# Altium footprint library NSC Switcher.PcbLib: 116 footprints (part 6 of 8)
Each footprint in its own frame and in the unit in brackets; x right, y up, seen from the top. Pads: shape width x height; smd on the part's side, far side on the other; paste and mask are expansions set on the pad; w line width, h text height; cw(c..) or ccw(c..) is an arc to the next point about the centre after c.
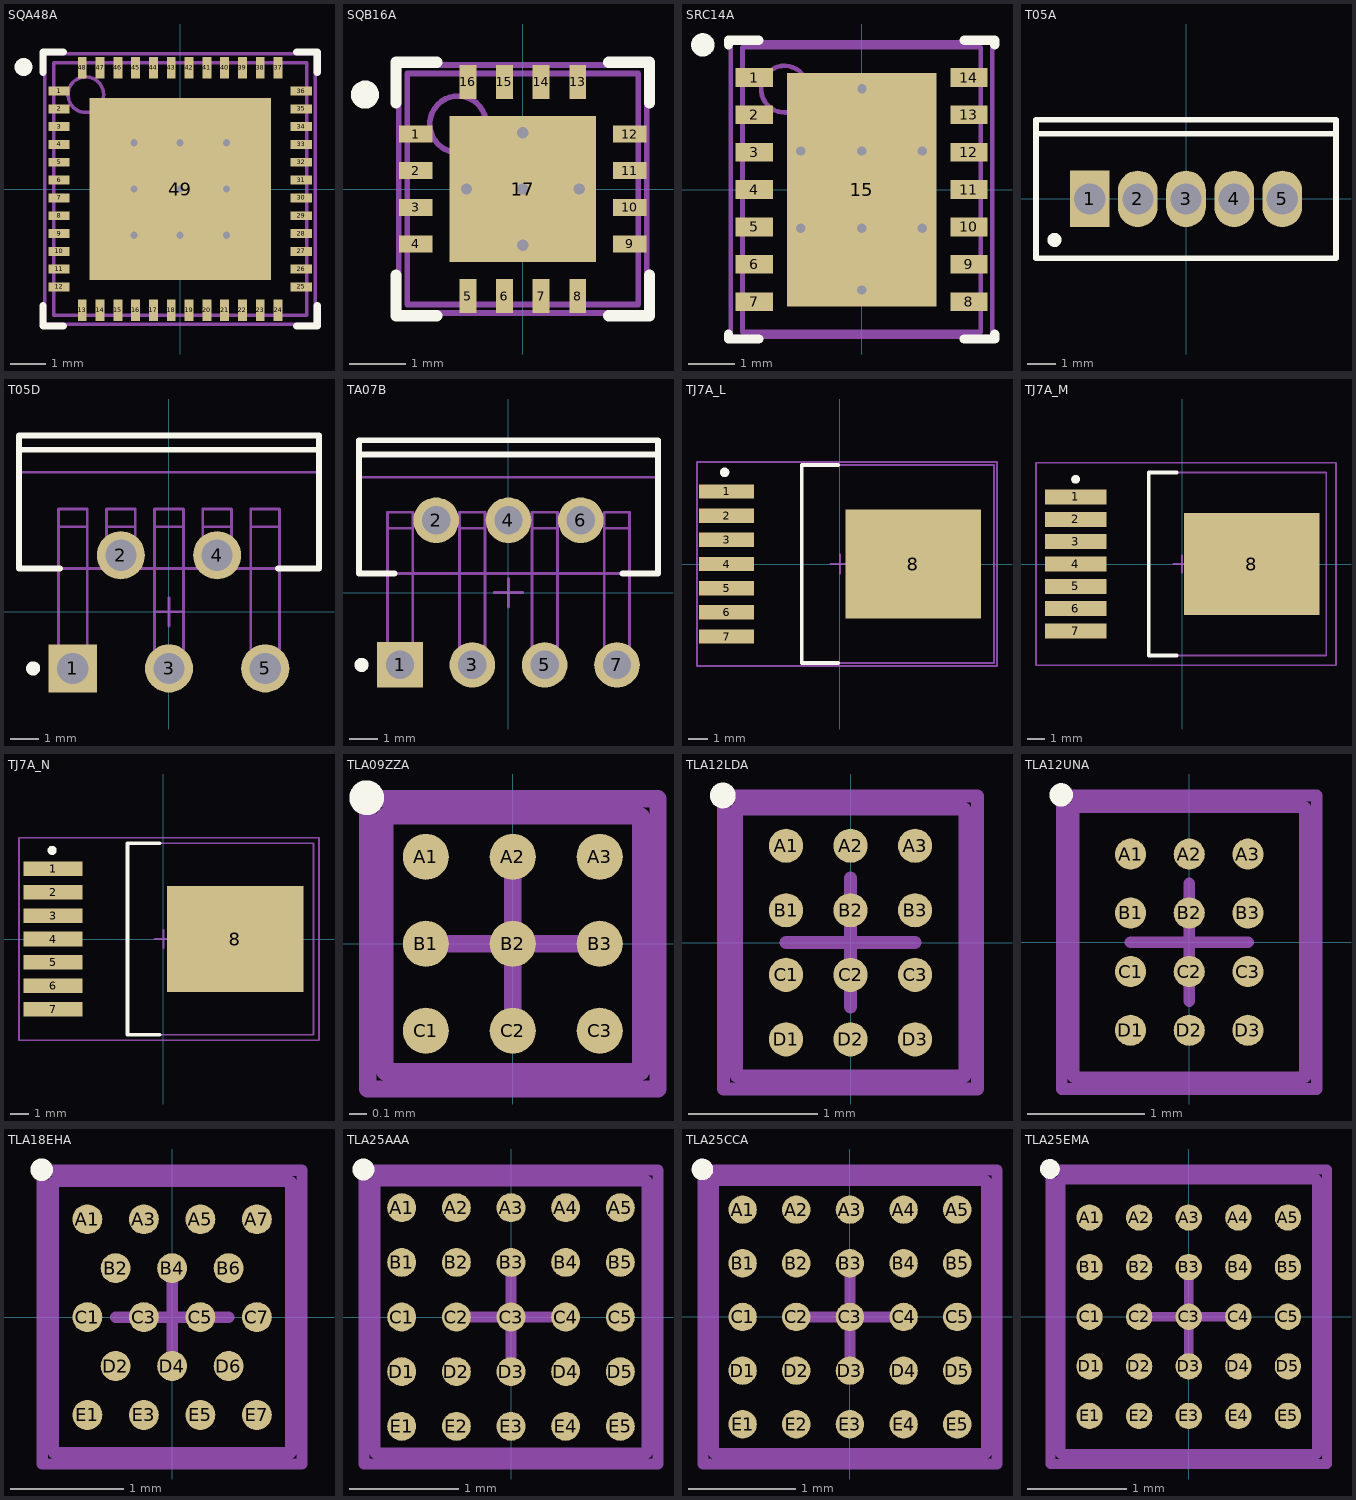
[diagram p5: the footprints below, top view; thin cyan lines are the x and y axes]

## SQA48A [mm] "QFN, 48-Leads, Body 7x7mm, Pitch 0.5mm, NSC Recommended"
height 0.8
pads (49):
  rect 0.6x0.25 smd paste-0.125 mask+0.051: 1(-3.4,2.75) 2(-3.4,2.25) 3(-3.4,1.75) 4(-3.4,1.25) 5(-3.4,0.75) 6(-3.4,0.25) 7(-3.4,-0.25) 8(-3.4,-0.75) 9(-3.4,-1.25) 10(-3.4,-1.75) 11(-3.4,-2.25) 12(-3.4,-2.75) 25(3.4,-2.75) 26(3.4,-2.25) 27(3.4,-1.75) 28(3.4,-1.25) 29(3.4,-0.75) 30(3.4,-0.25) 31(3.4,0.25) 32(3.4,0.75) 33(3.4,1.25) 34(3.4,1.75) 35(3.4,2.25) 36(3.4,2.75)
  rect 0.25x0.6 smd paste-0.125 mask+0.051: 13(-2.75,-3.4) 14(-2.25,-3.4) 15(-1.75,-3.4) 16(-1.25,-3.4) 17(-0.75,-3.4) 18(-0.25,-3.4) 19(0.25,-3.4) 20(0.75,-3.4) 21(1.25,-3.4) 22(1.75,-3.4) 23(2.25,-3.4) 24(2.75,-3.4) 37(2.75,3.4) 38(2.25,3.4) 39(1.75,3.4) 40(1.25,3.4) 41(0.75,3.4) 42(0.25,3.4) 43(-0.25,3.4) 44(-0.75,3.4) 45(-1.25,3.4) 46(-1.75,3.4) 47(-2.25,3.4) 48(-2.75,3.4)
  rect 5.1x5.1 smd paste-2.55 mask+0.051: 49(0,0)
via 0,-1.3 diameter 0.5 hole 0.2
via 1.3,-1.3 diameter 0.5 hole 0.2
via -1.3,-1.3 diameter 0.5 hole 0.2
via 0,1.3 diameter 0.5 hole 0.2
via 1.3,1.3 diameter 0.5 hole 0.2
via -1.3,1.3 diameter 0.5 hole 0.2
via -1.3,0 diameter 0.5 hole 0.2
via 1.3,0 diameter 0.5 hole 0.2
via 0,0 diameter 0.5 hole 0.2
Top Overlay:
  circle w0.25: c-4.4,3.425 r0.125
  lines w0.2: -3.85,-3.275 -3.85,-3.85 -3.275,-3.85 ; -3.85,3.275 -3.85,3.85 -3.275,3.85 ; 3.275,-3.85 3.85,-3.85 3.85,-3.275 ; 3.275,3.85 3.85,3.85 3.85,3.275
Top Paste:
  rectangle: -3.9,2.625 -3.2,2.875
  rectangle: -3.9,2.125 -3.2,2.375
  rectangle: -3.9,1.625 -3.2,1.875
  rectangle: -3.9,1.125 -3.2,1.375
  rectangle: -3.9,0.625 -3.2,0.875
  rectangle: -3.9,0.125 -3.2,0.375
  rectangle: -3.9,-0.375 -3.2,-0.125
  rectangle: -3.9,-0.875 -3.2,-0.625
  rectangle: -3.9,-1.375 -3.2,-1.125
  rectangle: -3.9,-1.875 -3.2,-1.625
  rectangle: -3.9,-2.375 -3.2,-2.125
  rectangle: -3.9,-2.875 -3.2,-2.625
  region: 2.875,-3.9 2.875,-3.2 2.625,-3.2 2.625,-3.9
  region: 2.375,-3.9 2.375,-3.2 2.125,-3.2 2.125,-3.9
  region: 1.875,-3.9 1.875,-3.2 1.625,-3.2 1.625,-3.9
  region: 1.375,-3.9 1.375,-3.2 1.125,-3.2 1.125,-3.9
  region: 0.875,-3.9 0.875,-3.2 0.625,-3.2 0.625,-3.9
  region: 0.375,-3.9 0.375,-3.2 0.125,-3.2 0.125,-3.9
  region: -0.125,-3.9 -0.125,-3.2 -0.375,-3.2 -0.375,-3.9
  region: -0.625,-3.9 -0.625,-3.2 -0.875,-3.2 -0.875,-3.9
  region: -1.125,-3.9 -1.125,-3.2 -1.375,-3.2 -1.375,-3.9
  region: -1.625,-3.9 -1.625,-3.2 -1.875,-3.2 -1.875,-3.9
  region: -2.125,-3.9 -2.125,-3.2 -2.375,-3.2 -2.375,-3.9
  region: -2.625,-3.9 -2.625,-3.2 -2.875,-3.2 -2.875,-3.9
  region: 3.9,2.875 3.2,2.875 3.2,2.625 3.9,2.625
  region: 3.9,2.375 3.2,2.375 3.2,2.125 3.9,2.125
  region: 3.9,1.875 3.2,1.875 3.2,1.625 3.9,1.625
  region: 3.9,1.375 3.2,1.375 3.2,1.125 3.9,1.125
  region: 3.9,0.875 3.2,0.875 3.2,0.625 3.9,0.625
  region: 3.9,0.375 3.2,0.375 3.2,0.125 3.9,0.125
  region: 3.9,-0.125 3.2,-0.125 3.2,-0.375 3.9,-0.375
  region: 3.9,-0.625 3.2,-0.625 3.2,-0.875 3.9,-0.875
  region: 3.9,-1.125 3.2,-1.125 3.2,-1.375 3.9,-1.375
  region: 3.9,-1.625 3.2,-1.625 3.2,-1.875 3.9,-1.875
  region: 3.9,-2.125 3.2,-2.125 3.2,-2.375 3.9,-2.375
  region: 3.9,-2.625 3.2,-2.625 3.2,-2.875 3.9,-2.875
  region: -2.875,3.9 -2.875,3.2 -2.625,3.2 -2.625,3.9
  region: -2.375,3.9 -2.375,3.2 -2.125,3.2 -2.125,3.9
  region: -1.875,3.9 -1.875,3.2 -1.625,3.2 -1.625,3.9
  region: -1.375,3.9 -1.375,3.2 -1.125,3.2 -1.125,3.9
  region: -0.875,3.9 -0.875,3.2 -0.625,3.2 -0.625,3.9
  region: -0.375,3.9 -0.375,3.2 -0.125,3.2 -0.125,3.9
  region: 0.125,3.9 0.125,3.2 0.375,3.2 0.375,3.9
  region: 0.625,3.9 0.625,3.2 0.875,3.2 0.875,3.9
  region: 1.125,3.9 1.125,3.2 1.375,3.2 1.375,3.9
  region: 1.625,3.9 1.625,3.2 1.875,3.2 1.875,3.9
  region: 2.125,3.9 2.125,3.2 2.375,3.2 2.375,3.9
  region: 2.625,3.9 2.625,3.2 2.875,3.2 2.875,3.9
  rectangle: 0.1,0.1 1.2,1.2
  rectangle: 0.1,1.4 1.2,2.5
  rectangle: 1.4,0.1 2.5,1.2
  rectangle: 1.4,1.4 2.5,2.5
  region: -1.4,2.5 -2.5,2.5 -2.5,1.4 -1.4,1.4
  region: -1.4,1.2 -2.5,1.2 -2.5,0.1 -1.4,0.1
  region: -0.1,2.5 -1.2,2.5 -1.2,1.4 -0.1,1.4
  region: -0.1,1.2 -1.2,1.2 -1.2,0.1 -0.1,0.1
  region: -2.5,-1.4 -2.5,-2.5 -1.4,-2.5 -1.4,-1.4
  region: -1.2,-1.4 -1.2,-2.5 -0.1,-2.5 -0.1,-1.4
  region: -2.5,-0.1 -2.5,-1.2 -1.4,-1.2 -1.4,-0.1
  region: -1.2,-0.1 -1.2,-1.2 -0.1,-1.2 -0.1,-0.1
  region: 1.4,-1.4 1.4,-2.5 2.5,-2.5 2.5,-1.4
  region: 0.1,-1.4 0.1,-2.5 1.2,-2.5 1.2,-1.4
  region: 1.4,-0.1 1.4,-1.2 2.5,-1.2 2.5,-0.1
  region: 0.1,-0.1 0.1,-1.2 1.2,-1.2 1.2,-0.1
Mechanical 13:
  circle w0.1: c-2.65,2.65 r0.5
  lines w0.1: -3.55,-3.55 3.55,-3.55 3.55,3.55 -3.55,3.55 -3.55,-3.55
Mechanical 15:
  lines w0.1: -0.5,0 0.5,0 ; 0,-0.5 0,0.5 ; -3.8,-3.8 3.8,-3.8 3.8,3.8 -3.8,3.8 -3.8,-3.8
3D body: height 0.8, standoff 0, extent -3.55,-3.55 3.55,3.55

## SQB16A [mm] "QFN, 16-Leads, Body 4x4mm, Pitch 0.65mm, NSC Recommended"
height 0.8
pads (17):
  rect 0.6x0.3 smd paste-0.15 mask+0.051: 1(-1.9,0.975) 2(-1.9,0.325) 3(-1.9,-0.325) 4(-1.9,-0.975) 9(1.9,-0.975) 10(1.9,-0.325) 11(1.9,0.325) 12(1.9,0.975)
  rect 0.3x0.6 smd paste-0.15 mask+0.051: 5(-0.975,-1.9) 6(-0.325,-1.9) 7(0.325,-1.9) 8(0.975,-1.9) 13(0.975,1.9) 14(0.325,1.9) 15(-0.325,1.9) 16(-0.975,1.9)
  rect 2.6x2.6 smd paste-1.3 mask+0.051: 17(0,0)
via 0,-1 diameter 0.5 hole 0.2
via 0,1 diameter 0.5 hole 0.2
via -1,0 diameter 0.5 hole 0.2
via 1,0 diameter 0.5 hole 0.2
via 0,0 diameter 0.5 hole 0.2
Top Overlay:
  circle w0.25: c-2.8,1.675 r0.125
  lines w0.2: -2.25,-1.525 -2.25,-2.25 -1.525,-2.25 ; -2.25,1.525 -2.25,2.25 -1.525,2.25 ; 1.525,-2.25 2.25,-2.25 2.25,-1.525 ; 1.525,2.25 2.25,2.25 2.25,1.525
Top Paste:
  rectangle: 0.1,-1.2 1.2,-0.1
  region: -0.1,-0.1 -1.2,-0.1 -1.2,-1.2 -0.1,-1.2
  region: -0.1,1.2 -1.2,1.2 -1.2,0.1 -0.1,0.1
  rectangle: 0.1,0.1 1.2,1.2
  region: 0.825,2.4 0.825,1.7 1.125,1.7 1.125,2.4
  region: 0.175,2.4 0.175,1.7 0.475,1.7 0.475,2.4
  region: -0.475,2.4 -0.475,1.7 -0.175,1.7 -0.175,2.4
  region: -1.125,2.4 -1.125,1.7 -0.825,1.7 -0.825,2.4
  region: 2.4,-0.825 1.7,-0.825 1.7,-1.125 2.4,-1.125
  region: 2.4,-0.175 1.7,-0.175 1.7,-0.475 2.4,-0.475
  region: 2.4,0.475 1.7,0.475 1.7,0.175 2.4,0.175
  region: 2.4,1.125 1.7,1.125 1.7,0.825 2.4,0.825
  region: -0.825,-2.4 -0.825,-1.7 -1.125,-1.7 -1.125,-2.4
  region: -0.175,-2.4 -0.175,-1.7 -0.475,-1.7 -0.475,-2.4
  region: 0.475,-2.4 0.475,-1.7 0.175,-1.7 0.175,-2.4
  region: 1.125,-2.4 1.125,-1.7 0.825,-1.7 0.825,-2.4
  rectangle: -2.4,-1.125 -1.7,-0.825
  rectangle: -2.4,-0.475 -1.7,-0.175
  rectangle: -2.4,0.175 -1.7,0.475
  rectangle: -2.4,0.825 -1.7,1.125
Mechanical 13:
  circle w0.1: c-1.15,1.15 r0.5
  lines w0.1: -2.05,-2.05 2.05,-2.05 2.05,2.05 -2.05,2.05 -2.05,-2.05
Mechanical 15:
  lines w0.1: -0.5,0 0.5,0 ; 0,-0.5 0,0.5 ; -2.2,-2.2 2.2,-2.2 2.2,2.2 -2.2,2.2 -2.2,-2.2
3D body: height 0.8, standoff 0, extent -2.05,-2.05 2.05,2.05

## SRC14A [mm] "SON, 14-Leads, Body 6x5 mm, Pitch 0.8mm, NSC Recommended"
height 1
pads (15):
  rect 0.8x0.4 smd paste-0.2 mask+0.051: 1(-2.3,2.4) 2(-2.3,1.6) 3(-2.3,0.8) 4(-2.3,0) 5(-2.3,-0.8) 6(-2.3,-1.6) 7(-2.3,-2.4) 8(2.3,-2.4) 9(2.3,-1.6) 10(2.3,-0.8) 11(2.3,0) 12(2.3,0.8) 13(2.3,1.6) 14(2.3,2.4)
  rect 3.2x5 smd paste-1.6 mask+0.051: 15(0,0)
via 0.01,2.16 diameter 0.5 hole 0.2
via 0,-2.15 diameter 0.5 hole 0.2
via -1.3,0.825 diameter 0.5 hole 0.2
via 0,0.825 diameter 0.5 hole 0.2
via 1.3,0.825 diameter 0.5 hole 0.2
via -1.3,-0.825 diameter 0.5 hole 0.2
via 0,-0.825 diameter 0.5 hole 0.2
via 1.3,-0.825 diameter 0.5 hole 0.2
Top Overlay:
  circle w0.25: c-3.4,3.1 r0.125
  lines w0.2: -2.85,-3.2 -2.85,-3.1 ; -2.85,3.1 -2.85,3.2 ; -2.845,-3.2 -2.2,-3.2 ; -2.845,3.2 -2.2,3.2 ; 2.2,-3.2 2.845,-3.2 ; 2.2,3.2 2.845,3.2 ; 2.85,-3.2 2.85,-3.1 ; 2.85,3.1 2.85,3.2
Top Paste:
  region: 2.9,2.6 2,2.6 2,2.2 2.9,2.2
  region: 2.9,1.8 2,1.8 2,1.4 2.9,1.4
  region: 2.9,1 2,1 2,0.6 2.9,0.6
  region: 2.9,-0.6 2,-0.6 2,-1 2.9,-1
  region: 2.9,-1.4 2,-1.4 2,-1.8 2.9,-1.8
  region: 2.9,-2.2 2,-2.2 2,-2.6 2.9,-2.6
  rectangle: 2,-0.2 2.9,0.2
  region: -2,0.2 -2.9,0.2 -2.9,-0.2 -2,-0.2
  rectangle: -2.9,-2.6 -2,-2.2
  rectangle: -2.9,-1.8 -2,-1.4
  rectangle: -2.9,-1 -2,-0.6
  rectangle: -2.9,0.6 -2,1
  rectangle: -2.9,1.4 -2,1.8
  region: 1.5,0.7 0.1,0.7 0.1,-0.7 1.5,-0.7
  rectangle: -1.5,-0.7 -0.1,0.7
  region: 1.5,2.35 0.11,2.35 0.11,0.95 1.5,0.95
  rectangle: -1.5,0.95 -0.1,2.35
  region: 1.5,-0.95 0.1,-0.95 0.1,-2.35 1.5,-2.35
  rectangle: -1.5,-2.35 -0.1,-0.95
  rectangle: -2.9,2.2 -2,2.6
Mechanical 13:
  circle w0.1: c-1.65,2.15 r0.5
  lines w0.1: -2.55,-3.05 2.55,-3.05 2.55,3.05 -2.55,3.05 -2.55,-3.05
Mechanical 15:
  lines w0.1: -0.5,0 0.5,0 ; 0,-0.5 0,0.5 ; -2.8,-3.15 2.8,-3.15 2.8,3.15 -2.8,3.15 -2.8,-3.15
3D body: height 1, standoff 0, extent -2.549,-3.049 2.549,3.049

## T05A [mm] "TO, Thru-Hole, Vertical, Heatsink Mounted; 5 In-Line Leads; Pitch 1.70 mm"
height 19.6
pads (5):
  rect 1.4x2 hole 1.1: 1(-3.4,0)
  oval 1.4x2 hole 1.1: 2(-1.7,0) 3(0,0) 4(1.7,0) 5(3.4,0)
Top Overlay:
  circle w0.25: c-4.65,-1.45 r0.125
  lines w0.2: -5.3,2.3 5.3,2.3 ; -5.3,-2.1 5.3,-2.1 5.3,2.8 -5.3,2.8 -5.3,-2.1
Mechanical 13:
  lines w0.1: -5.3,2.3 5.3,2.3 ; -5.3,-2.1 -5.3,2.8 5.3,2.8 5.3,-2.1 -5.3,-2.1 ; -3.91,-0.28 -3.91,0.28 -2.89,0.28 -2.89,-0.28 -3.91,-0.28 ; -2.21,-0.28 -2.21,0.28 -1.19,0.28 -1.19,-0.28 -2.21,-0.28 ; -0.51,-0.28 -0.51,0.28 0.51,0.28 0.51,-0.28 -0.51,-0.28 ; 1.19,-0.28 1.19,0.28 2.21,0.28 2.21,-0.28 1.19,-0.28 ; 2.89,-0.28 2.89,0.28 3.91,0.28 3.91,-0.28 2.89,-0.28
Mechanical 15:
  lines w0.1: -0.5,0 0.5,0 ; 0,-0.5 0,0.5
3D body: height 13, standoff 4.1, extent -5.35,-2.15 5.35,2.85
3D body: height 19.6, standoff 13, extent -5.299,2.301 5.299,2.799
3D body: height 4.1, standoff 0, extent -3.909,-0.279 -2.891,0.279
3D body: height 4.1, standoff 0, extent -2.209,-0.279 -1.191,0.279
3D body: height 4.1, standoff 0, extent 1.191,-0.279 2.209,0.279
3D body: height 4.1, standoff 0, extent 2.891,-0.279 3.909,0.279
3D body: height 4.1, standoff 0, extent -0.509,-0.279 0.509,0.279

## T05D [mm] "TO, Thru-Hole, Vertical, Heatsink Mounted; 5 Bent Staggered Leads; Body 10.3x8.6x4.6mm, Pitch 1.7 mm"
height 21.1
pads (5):
  rect 1.7x1.7 hole 1.1: 1(-3.4,-2)
  round 1.7 hole 1.1: 2(-1.7,2) 3(0,-2) 4(1.7,2) 5(3.4,-2)
Top Overlay:
  circle w0.25: c-4.8,-2 r0.125
  lines w0.2: -5.3,5.73 5.3,5.73 ; -3.854,1.53 -5.3,1.53 -5.3,6.23 5.3,6.23 5.3,1.53 3.854,1.53
Mechanical 13:
  lines w0.1: -5.3,4.93 5.3,4.93 ; -3.91,-1.685 -3.91,-2.315 -2.89,-2.315 -2.89,-1.685 ; -3.91,-1.685 -2.89,-1.685 ; -3.91,-1.685 -3.91,3.005 ; -3.91,3.005 -2.89,3.005 ; -3.91,3.005 -3.91,3.635 -2.89,3.635 -2.89,3.005 ; -2.89,-1.685 -2.89,3.005 ; -2.21,2.315 -2.21,1.685 -1.19,1.685 -1.19,2.315 ; -2.21,2.315 -1.19,2.315 ; -2.21,2.315 -2.21,3.005 ; -2.21,3.005 -1.19,3.005 ; -2.21,3.005 -2.21,3.635 -1.19,3.635 -1.19,3.005 ; -1.19,2.315 -1.19,3.005 ; -0.51,-1.685 -0.51,3.005 ; -0.51,-1.685 0.51,-1.685 ; -0.51,-1.685 -0.51,-2.315 0.51,-2.315 0.51,-1.685 ; -0.51,3.005 -0.51,3.635 0.51,3.635 0.51,3.005 ; -0.51,3.005 0.51,3.005 ; 0.51,-1.685 0.51,3.005 ; 1.19,2.315 1.19,1.685 2.21,1.685 2.21,2.315 ; 1.19,2.315 2.21,2.315 ; 1.19,2.315 1.19,3.005 ; 1.19,3.005 2.21,3.005 ; 1.19,3.005 1.19,3.635 2.21,3.635 2.21,3.005 ; 2.21,2.315 2.21,3.005 ; 2.89,-1.685 2.89,3.005 ; 2.89,-1.685 2.89,-2.315 3.91,-2.315 3.91,-1.685 ; 2.89,-1.685 3.91,-1.685 ; 2.89,3.005 3.91,3.005 ; 2.89,3.005 2.89,3.635 3.91,3.635 3.91,3.005 ; 3.91,-1.685 3.91,3.005 ; -5.3,1.53 -5.3,6.23 5.3,6.23 5.3,1.53 -5.3,1.53
Mechanical 15:
  lines w0.1: -0.5,0 0.5,0 ; 0,-0.5 0,0.5
3D body: height 5.6, standoff 1.95, extent -3.909,3.006 -2.891,3.634
3D body: height 1.72, standoff 0.63, extent 2.891,-1.684 3.909,1.529
3D body: height 1.72, standoff 0.63, extent -0.509,-1.684 0.509,1.529
3D body: height 1.72, standoff 0.63, extent -3.909,-1.684 -2.891,1.529
3D body: height 0.93, standoff 0, extent 2.891,-2.314 3.909,-1.686
3D body: height 0.93, standoff 0, extent -0.509,-2.314 0.509,-1.686
3D body: height 0.93, standoff 0, extent -3.909,-2.314 -2.891,-1.686
3D body: height 2.26, standoff 1.42, extent -0.509,1.531 0.509,3.004
3D body: height 2.26, standoff 1.42, extent -3.909,1.531 -2.891,3.004
3D body: height 2.26, standoff 1.42, extent 2.891,1.531 3.909,3.004
3D body: height 2.26, standoff 0.63, extent 1.191,2.316 2.209,3.004
3D body: height 2.26, standoff 0.63, extent -2.209,2.316 -1.191,3.004
3D body: height 0.93, standoff 0, extent -2.209,1.686 -1.191,2.314
3D body: height 0.93, standoff 0, extent 1.191,1.686 2.209,2.314
3D body: height 5.6, standoff 1.95, extent 2.891,3.006 3.909,3.634
3D body: height 5.6, standoff 1.95, extent 1.191,3.006 2.209,3.634
3D body: height 5.6, standoff 1.95, extent -0.509,3.006 0.509,3.634
3D body: height 5.6, standoff 1.95, extent -2.209,3.006 -1.191,3.634
3D body: height 14.5, standoff 5.6, extent -5.35,1.48 5.35,6.28
3D body: height 21.1, standoff 14.5, extent -5.299,4.931 5.299,6.229

## TA07B [mm] "TO, Thru-Hole, Vertical, Heatsink Mounted; 7 Bent Staggered Leads; Body 10.2x8.7x4.6mm, Pitch 1.27 mm"
height 20.9
pads (7):
  rect 1.6x1.6 hole 1: 1(-3.81,-2.54)
  round 1.6 hole 1: 2(-2.54,2.54) 3(-1.27,-2.54) 4(0,2.54) 5(1.27,-2.54) 6(2.54,2.54) 7(3.81,-2.54)
Top Overlay:
  circle w0.25: c-5.16,-2.54 r0.125
  lines w0.2: -5.25,4.85 5.25,4.85 ; -4,0.67 -5.25,0.67 -5.25,5.35 5.25,5.35 5.25,0.67 4,0.67
Mechanical 13:
  lines w0.1: -5.25,4.05 5.25,4.05 ; -4.255,-2.26 -4.255,2.26 ; -4.255,-2.26 -3.365,-2.26 ; -4.255,-2.26 -4.255,-2.82 -3.365,-2.82 -3.365,-2.26 ; -4.255,2.26 -4.255,2.82 -3.365,2.82 -3.365,2.26 ; -4.255,2.26 -3.365,2.26 ; -3.365,-2.26 -3.365,2.26 ; -1.715,-2.26 -1.715,2.26 ; -1.715,-2.26 -0.825,-2.26 ; -1.715,-2.26 -1.715,-2.82 -0.825,-2.82 -0.825,-2.26 ; -1.715,2.26 -1.715,2.82 -0.825,2.82 -0.825,2.26 ; -1.715,2.26 -0.825,2.26 ; -0.825,-2.26 -0.825,2.26 ; 0.825,-2.26 0.825,2.26 ; 0.825,-2.26 1.715,-2.26 ; 0.825,-2.26 0.825,-2.82 1.715,-2.82 1.715,-2.26 ; 0.825,2.26 0.825,2.82 1.715,2.82 1.715,2.26 ; 0.825,2.26 1.715,2.26 ; 1.715,-2.26 1.715,2.26 ; 3.365,-2.26 4.255,-2.26 ; 3.365,-2.26 3.365,-2.82 4.255,-2.82 4.255,-2.26 ; 3.365,-2.26 3.365,2.26 ; 3.365,2.26 3.365,2.82 4.255,2.82 4.255,2.26 ; 3.365,2.26 4.255,2.26 ; 4.255,-2.26 4.255,2.26 ; -5.25,0.67 -5.25,5.35 5.25,5.35 5.25,0.67 -5.25,0.67 ; -2.985,2.26 -2.985,2.82 -2.095,2.82 -2.095,2.26 -2.985,2.26 ; -0.445,2.26 -0.445,2.82 0.445,2.82 0.445,2.26 -0.445,2.26 ; 2.095,2.26 2.095,2.82 2.985,2.82 2.985,2.26 2.095,2.26
Mechanical 15:
  lines w0.1: -0.5,0 0.5,0 ; 0,-0.5 0,0.5
3D body: height 14.35, standoff 5.4, extent -5.3,0.62 5.3,5.4
3D body: height 0.7, standoff 0, extent 3.366,-2.819 4.254,-2.261
3D body: height 0.7, standoff 0, extent -1.714,-2.819 -0.826,-2.261
3D body: height 0.7, standoff 0, extent -4.254,-2.819 -3.366,-2.261
3D body: height 0.7, standoff 0, extent 0.826,-2.819 1.714,-2.261
3D body: height 2.45, standoff 0.45, extent -1.714,-2.259 -0.826,0.669
3D body: height 2.45, standoff 0.45, extent -4.254,-2.259 -3.366,0.669
3D body: height 2.45, standoff 0.45, extent 0.826,-2.259 1.714,0.669
3D body: height 2.45, standoff 0.45, extent 3.366,-2.259 4.254,0.669
3D body: height 3.69, standoff 2.15, extent 3.366,0.671 4.254,2.259
3D body: height 3.69, standoff 2.15, extent 0.826,0.671 1.714,2.259
3D body: height 3.69, standoff 2.15, extent -1.714,0.671 -0.826,2.259
3D body: height 3.69, standoff 2.15, extent -4.254,0.671 -3.366,2.259
3D body: height 5.4, standoff 3.3, extent -1.714,2.261 -0.826,2.819
3D body: height 5.4, standoff 0, extent -2.984,2.261 -2.096,2.819
3D body: height 5.4, standoff 3.3, extent -4.254,2.261 -3.366,2.819
3D body: height 5.4, standoff 0, extent -0.444,2.261 0.444,2.819
3D body: height 5.4, standoff 0, extent 2.096,2.261 2.984,2.819
3D body: height 5.4, standoff 3.3, extent 3.366,2.261 4.254,2.819
3D body: height 5.4, standoff 3.3, extent 0.826,2.261 1.714,2.819
3D body: height 20.9, standoff 14.35, extent -5.249,4.051 5.249,5.349

## TJ7A_L [mm] "D2-PAK, 8-Leads, Body 9.9x10.2mm, Pitch 1.27mm, Lead Span 14mm, IPC High Density"
height 2.1
pads (8):
  rect 2.9x0.75 smd: 1(-5.95,3.81) 2(-5.95,2.54) 3(-5.95,1.27) 4(-5.95,0) 5(-5.95,-1.27) 6(-5.95,-2.54) 7(-5.95,-3.81)
  rect 7.1x5.7 smd: 8(3.85,0)
Top Overlay:
  circle w0.25: c-6.05,4.815 r0.125
  lines w0.2: -0.1,-5.2 -2,-5.2 -2,5.2 -0.1,5.2
Mechanical 13:
  lines w0.1: -2,-5.2 -2,5.2 8.1,5.2 8.1,-5.2 -2,-5.2
Mechanical 15:
  lines w0.1: -0.5,0 0.5,0 ; 0,-0.5 0,0.5 ; -7.5,-5.35 -7.5,5.35 8.25,5.35 8.25,-5.35 -7.5,-5.35
3D body: height 2.1, standoff 0, extent -1.999,-5.199 8.099,5.199

## TJ7A_M [mm] "D2-PAK, 8-Leads, Body 9.9x10.2mm, Pitch 1.27mm, Lead Span 14mm, IPC Low Density"
height 2.1
pads (8):
  rect 3.5x0.85 smd: 1(-6.05,3.81) 2(-6.05,2.54) 3(-6.05,1.27) 4(-6.05,0) 5(-6.05,-1.27) 6(-6.05,-2.54) 7(-6.05,-3.81)
  rect 7.7x5.8 smd: 8(3.95,0)
Top Overlay:
  circle w0.25: c-6.05,4.815 r0.125
  lines w0.2: -0.3,-5.2 -1.9,-5.2 -1.9,5.2 -0.3,5.2
Mechanical 13:
  lines w0.1: -1.9,-5.2 -1.9,5.2 8.2,5.2 8.2,-5.2 -1.9,-5.2
Mechanical 15:
  lines w0.1: -0.5,0 0.5,0 ; 0,-0.5 0,0.5 ; -8.3,-5.75 -8.3,5.75 8.75,5.75 8.75,-5.75 -8.3,-5.75
3D body: height 2.1, standoff 0, extent -1.899,-5.199 8.199,5.199

## TJ7A_N [mm] "D2-PAK, 8-Leads, Body 9.9x10.2mm, Pitch 1.27mm, Lead Span 14mm, IPC Medium Density"
height 2.1
pads (8):
  rect 3.2x0.8 smd: 1(-6,3.81) 2(-6,2.54) 3(-6,1.27) 4(-6,0) 5(-6,-1.27) 6(-6,-2.54) 7(-6,-3.81)
  rect 7.4x5.75 smd: 8(3.9,0)
Top Overlay:
  circle w0.25: c-6.05,4.815 r0.125
  lines w0.2: -0.2,-5.2 -1.95,-5.2 -1.95,5.2 -0.2,5.2
Mechanical 13:
  lines w0.1: -1.95,-5.2 8.15,-5.2 8.15,5.2 -1.95,5.2 -1.95,-5.2
Mechanical 15:
  lines w0.1: -0.5,0 0.5,0 ; 0,-0.5 0,0.5 ; -7.85,-5.5 8.45,-5.5 8.45,5.5 -7.85,5.5 -7.85,-5.5
3D body: height 2.1, standoff 0, extent -1.949,-5.199 8.149,5.199

## TLA09ZZA [mm] "Micro SMD, 9-Leads, Body 1.47x1.47mm, Pitch 0.5mm, NSC Recommended"
height 0.68
pads (9):
  round 0.265 smd paste-0.132 mask+0.05: A1(-0.5,0.5) A2(0,0.5) A3(0.5,0.5) B1(-0.5,0) B2(0,0) B3(0.5,0) C1(-0.5,-0.5) C2(0,-0.5) C3(0.5,-0.5)
Top Overlay:
  circle w0.1: c-0.84,0.84 r0.05
Top Paste:
  circle w0.05: c0.075,-0.6 r0.025
  circle w0.05: c-0.075,-0.45 r0.025
  circle w0.05: c-0.075,-0.6 r0.025
  circle w0.05: c0.075,-0.45 r0.025
  circle w0.05: c-0.6,-0.075 r0.025
  circle w0.05: c-0.45,0.075 r0.025
  circle w0.05: c-0.6,0.075 r0.025
  circle w0.05: c-0.45,-0.075 r0.025
  circle w0.05: c-0.075,0.6 r0.025
  circle w0.05: c0.075,0.45 r0.025
  circle w0.05: c0.075,0.6 r0.025
  circle w0.05: c-0.075,0.45 r0.025
  circle w0.05: c0.6,0.075 r0.025
  circle w0.05: c0.45,-0.075 r0.025
  circle w0.05: c0.6,-0.075 r0.025
  circle w0.05: c0.45,0.075 r0.025
  circle w0.05: c-0.45,0.45 r0.025
  circle w0.05: c-0.6,0.6 r0.025
  circle w0.05: c-0.45,0.6 r0.025
  circle w0.05: c-0.6,0.45 r0.025
  circle w0.05: c-0.45,-0.45 r0.025
  circle w0.05: c-0.6,-0.6 r0.025
  circle w0.05: c-0.6,-0.45 r0.025
  circle w0.05: c-0.45,-0.6 r0.025
  circle w0.05: c0.45,-0.45 r0.025
  circle w0.05: c0.6,-0.6 r0.025
  circle w0.05: c0.45,-0.6 r0.025
  circle w0.05: c0.6,-0.45 r0.025
  circle w0.05: c0.45,0.45 r0.025
  circle w0.05: c0.6,0.6 r0.025
  circle w0.05: c0.6,0.45 r0.025
  circle w0.05: c0.45,0.6 r0.025
  circle w0.05: c0.075,-0.075 r0.025
  circle w0.05: c-0.075,0.075 r0.025
  circle w0.05: c-0.075,-0.075 r0.025
  circle w0.05: c0.075,0.075 r0.025
  rectangle: -0.075,-0.45 0.075,-0.4
  region: -0.075,-0.6 -0.075,-0.45 -0.125,-0.45 -0.125,-0.6
  region: 0.075,-0.6 -0.075,-0.6 -0.075,-0.65 0.075,-0.65
  region: 0.075,-0.45 0.075,-0.6 0.125,-0.6 0.125,-0.45
  region: 0.075,-0.6 0.075,-0.45 -0.075,-0.45 -0.075,-0.6
  region: -0.45,0.075 -0.45,-0.075 -0.4,-0.075 -0.4,0.075
  rectangle: -0.6,0.075 -0.45,0.125
  region: -0.6,-0.075 -0.6,0.075 -0.65,0.075 -0.65,-0.075
  region: -0.45,-0.075 -0.6,-0.075 -0.6,-0.125 -0.45,-0.125
  rectangle: -0.6,-0.075 -0.45,0.075
  region: 0.075,0.45 -0.075,0.45 -0.075,0.4 0.075,0.4
  region: 0.075,0.6 0.075,0.45 0.125,0.45 0.125,0.6
  rectangle: -0.075,0.6 0.075,0.65
  region: -0.075,0.45 -0.075,0.6 -0.125,0.6 -0.125,0.45
  region: -0.075,0.6 -0.075,0.45 0.075,0.45 0.075,0.6
  region: 0.45,-0.075 0.45,0.075 0.4,0.075 0.4,-0.075
  region: 0.6,-0.075 0.45,-0.075 0.45,-0.125 0.6,-0.125
  region: 0.6,0.075 0.6,-0.075 0.65,-0.075 0.65,0.075
  rectangle: 0.45,0.075 0.6,0.125
  region: 0.6,0.075 0.45,0.075 0.45,-0.075 0.6,-0.075
  rectangle: -0.6,0.45 -0.45,0.6
  region: -0.45,0.45 -0.6,0.45 -0.6,0.4 -0.45,0.4
  region: -0.6,0.45 -0.6,0.6 -0.65,0.6 -0.65,0.45
  rectangle: -0.6,0.6 -0.45,0.65
  region: -0.45,0.6 -0.45,0.45 -0.4,0.45 -0.4,0.6
  region: -0.45,-0.6 -0.45,-0.45 -0.6,-0.45 -0.6,-0.6
  region: -0.45,-0.45 -0.45,-0.6 -0.4,-0.6 -0.4,-0.45
  region: -0.45,-0.6 -0.6,-0.6 -0.6,-0.65 -0.45,-0.65
  region: -0.6,-0.6 -0.6,-0.45 -0.65,-0.45 -0.65,-0.6
  rectangle: -0.6,-0.45 -0.45,-0.4
  region: 0.6,-0.45 0.45,-0.45 0.45,-0.6 0.6,-0.6
  rectangle: 0.45,-0.45 0.6,-0.4
  region: 0.6,-0.45 0.6,-0.6 0.65,-0.6 0.65,-0.45
  region: 0.6,-0.6 0.45,-0.6 0.45,-0.65 0.6,-0.65
  region: 0.45,-0.6 0.45,-0.45 0.4,-0.45 0.4,-0.6
  region: 0.45,0.6 0.45,0.45 0.6,0.45 0.6,0.6
  region: 0.45,0.45 0.45,0.6 0.4,0.6 0.4,0.45
  rectangle: 0.45,0.6 0.6,0.65
  region: 0.6,0.6 0.6,0.45 0.65,0.45 0.65,0.6
  region: 0.6,0.45 0.45,0.45 0.45,0.4 0.6,0.4
  region: -0.075,0.075 -0.075,-0.075 0.075,-0.075 0.075,0.075
  region: 0.125,-0.075 0.125,0.075 0.075,0.075 0.075,-0.075
  region: 0.075,0.125 -0.075,0.125 -0.075,0.075 0.075,0.075
  region: -0.125,0.075 -0.125,-0.075 -0.075,-0.075 -0.075,0.075
  rectangle: -0.075,-0.125 0.075,-0.075
Mechanical 13:
  lines w0.1: -0.735,-0.735 0.735,-0.735 0.735,0.735 -0.735,0.735 -0.735,-0.735
Mechanical 15:
  lines w0.1: -0.5,0 0.5,0 ; 0,-0.5 0,0.5 ; -0.835,-0.835 0.835,-0.835 0.835,0.835 -0.835,0.835 -0.835,-0.835
3D body: height 0.68, standoff 0, extent -0.734,-0.734 0.734,0.734

## TLA12LDA [mm] "Micro SMD, 12-Leads, Body 2.07x1.77mm, Pitch 0.5mm, NSC Recommended"
height 0.68
pads (12):
  round 0.265 smd paste-0.132 mask+0.05: A1(-0.5,0.75) A2(0,0.75) A3(0.5,0.75) B1(-0.5,0.25) B2(0,0.25) B3(0.5,0.25) C1(-0.5,-0.25) C2(0,-0.25) C3(0.5,-0.25) D1(-0.5,-0.75) D2(0,-0.75) D3(0.5,-0.75)
Top Overlay:
  circle w0.1: c-0.99,1.14 r0.05
Top Paste:
  circle w0.05: c0.45,-0.7 r0.025
  circle w0.05: c0.6,-0.85 r0.025
  circle w0.05: c0.6,-0.7 r0.025
  circle w0.05: c0.45,-0.85 r0.025
  circle w0.05: c-0.075,-0.7 r0.025
  circle w0.05: c0.075,-0.85 r0.025
  circle w0.05: c0.075,-0.7 r0.025
  circle w0.05: c-0.075,-0.85 r0.025
  circle w0.05: c-0.6,-0.7 r0.025
  circle w0.05: c-0.45,-0.85 r0.025
  circle w0.05: c-0.45,-0.7 r0.025
  circle w0.05: c-0.6,-0.85 r0.025
  circle w0.05: c0.45,-0.175 r0.025
  circle w0.05: c0.6,-0.325 r0.025
  circle w0.05: c0.6,-0.175 r0.025
  circle w0.05: c0.45,-0.325 r0.025
  circle w0.05: c-0.075,-0.175 r0.025
  circle w0.05: c0.075,-0.325 r0.025
  circle w0.05: c0.075,-0.175 r0.025
  circle w0.05: c-0.075,-0.325 r0.025
  circle w0.05: c-0.6,-0.175 r0.025
  circle w0.05: c-0.45,-0.325 r0.025
  circle w0.05: c-0.45,-0.175 r0.025
  circle w0.05: c-0.6,-0.325 r0.025
  circle w0.05: c0.45,0.325 r0.025
  circle w0.05: c0.6,0.175 r0.025
  circle w0.05: c0.6,0.325 r0.025
  circle w0.05: c0.45,0.175 r0.025
  circle w0.05: c-0.075,0.325 r0.025
  circle w0.05: c0.075,0.175 r0.025
  circle w0.05: c0.075,0.325 r0.025
  circle w0.05: c-0.075,0.175 r0.025
  circle w0.05: c-0.6,0.325 r0.025
  circle w0.05: c-0.45,0.175 r0.025
  circle w0.05: c-0.45,0.325 r0.025
  circle w0.05: c-0.6,0.175 r0.025
  circle w0.05: c0.45,0.85 r0.025
  circle w0.05: c0.6,0.7 r0.025
  circle w0.05: c0.6,0.85 r0.025
  circle w0.05: c0.45,0.7 r0.025
  circle w0.05: c-0.075,0.85 r0.025
  circle w0.05: c0.075,0.7 r0.025
  circle w0.05: c0.075,0.85 r0.025
  circle w0.05: c-0.075,0.7 r0.025
  circle w0.05: c-0.6,0.85 r0.025
  circle w0.05: c-0.45,0.7 r0.025
  circle w0.05: c-0.45,0.85 r0.025
  circle w0.05: c-0.6,0.7 r0.025
  region: 0.6,-0.85 0.45,-0.85 0.45,-0.9 0.6,-0.9
  region: 0.6,-0.7 0.6,-0.85 0.65,-0.85 0.65,-0.7
  rectangle: 0.45,-0.7 0.6,-0.65
  region: 0.45,-0.85 0.45,-0.7 0.4,-0.7 0.4,-0.85
  region: 0.45,-0.7 0.45,-0.85 0.6,-0.85 0.6,-0.7
  region: 0.075,-0.85 -0.075,-0.85 -0.075,-0.9 0.075,-0.9
  region: 0.075,-0.7 0.075,-0.85 0.125,-0.85 0.125,-0.7
  rectangle: -0.075,-0.7 0.075,-0.65
  region: -0.075,-0.85 -0.075,-0.7 -0.125,-0.7 -0.125,-0.85
  region: -0.075,-0.7 -0.075,-0.85 0.075,-0.85 0.075,-0.7
  region: -0.45,-0.85 -0.6,-0.85 -0.6,-0.9 -0.45,-0.9
  region: -0.45,-0.7 -0.45,-0.85 -0.4,-0.85 -0.4,-0.7
  rectangle: -0.6,-0.7 -0.45,-0.65
  region: -0.6,-0.85 -0.6,-0.7 -0.65,-0.7 -0.65,-0.85
  region: -0.6,-0.7 -0.6,-0.85 -0.45,-0.85 -0.45,-0.7
  region: 0.6,-0.325 0.45,-0.325 0.45,-0.375 0.6,-0.375
  region: 0.6,-0.175 0.6,-0.325 0.65,-0.325 0.65,-0.175
  rectangle: 0.45,-0.175 0.6,-0.125
  region: 0.45,-0.325 0.45,-0.175 0.4,-0.175 0.4,-0.325
  region: 0.45,-0.175 0.45,-0.325 0.6,-0.325 0.6,-0.175
  region: 0.075,-0.325 -0.075,-0.325 -0.075,-0.375 0.075,-0.375
  region: 0.075,-0.175 0.075,-0.325 0.125,-0.325 0.125,-0.175
  rectangle: -0.075,-0.175 0.075,-0.125
  region: -0.075,-0.325 -0.075,-0.175 -0.125,-0.175 -0.125,-0.325
  region: -0.075,-0.175 -0.075,-0.325 0.075,-0.325 0.075,-0.175
  region: -0.45,-0.325 -0.6,-0.325 -0.6,-0.375 -0.45,-0.375
  region: -0.45,-0.175 -0.45,-0.325 -0.4,-0.325 -0.4,-0.175
  rectangle: -0.6,-0.175 -0.45,-0.125
  region: -0.6,-0.325 -0.6,-0.175 -0.65,-0.175 -0.65,-0.325
  region: -0.6,-0.175 -0.6,-0.325 -0.45,-0.325 -0.45,-0.175
  region: 0.6,0.175 0.45,0.175 0.45,0.125 0.6,0.125
  region: 0.6,0.325 0.6,0.175 0.65,0.175 0.65,0.325
  rectangle: 0.45,0.325 0.6,0.375
  region: 0.45,0.175 0.45,0.325 0.4,0.325 0.4,0.175
  region: 0.45,0.325 0.45,0.175 0.6,0.175 0.6,0.325
  region: 0.075,0.175 -0.075,0.175 -0.075,0.125 0.075,0.125
  region: 0.075,0.325 0.075,0.175 0.125,0.175 0.125,0.325
  rectangle: -0.075,0.325 0.075,0.375
  region: -0.075,0.175 -0.075,0.325 -0.125,0.325 -0.125,0.175
  region: -0.075,0.325 -0.075,0.175 0.075,0.175 0.075,0.325
  region: -0.45,0.175 -0.6,0.175 -0.6,0.125 -0.45,0.125
  region: -0.45,0.325 -0.45,0.175 -0.4,0.175 -0.4,0.325
  rectangle: -0.6,0.325 -0.45,0.375
  region: -0.6,0.175 -0.6,0.325 -0.65,0.325 -0.65,0.175
  region: -0.6,0.325 -0.6,0.175 -0.45,0.175 -0.45,0.325
  region: 0.6,0.7 0.45,0.7 0.45,0.65 0.6,0.65
  region: 0.6,0.85 0.6,0.7 0.65,0.7 0.65,0.85
  rectangle: 0.45,0.85 0.6,0.9
  region: 0.45,0.7 0.45,0.85 0.4,0.85 0.4,0.7
  region: 0.45,0.85 0.45,0.7 0.6,0.7 0.6,0.85
  region: 0.075,0.7 -0.075,0.7 -0.075,0.65 0.075,0.65
  region: 0.075,0.85 0.075,0.7 0.125,0.7 0.125,0.85
  rectangle: -0.075,0.85 0.075,0.9
  region: -0.075,0.7 -0.075,0.85 -0.125,0.85 -0.125,0.7
  region: -0.075,0.85 -0.075,0.7 0.075,0.7 0.075,0.85
  region: -0.45,0.7 -0.6,0.7 -0.6,0.65 -0.45,0.65
  region: -0.45,0.85 -0.45,0.7 -0.4,0.7 -0.4,0.85
  rectangle: -0.6,0.85 -0.45,0.9
  region: -0.6,0.7 -0.6,0.85 -0.65,0.85 -0.65,0.7
  region: -0.6,0.85 -0.6,0.7 -0.45,0.7 -0.45,0.85
Mechanical 13:
  lines w0.1: -0.885,-1.035 0.885,-1.035 0.885,1.035 -0.885,1.035 -0.885,-1.035
Mechanical 15:
  lines w0.1: -0.5,0 0.5,0 ; 0,-0.5 0,0.5 ; -0.985,-1.135 0.985,-1.135 0.985,1.135 -0.985,1.135 -0.985,-1.135
3D body: height 0.68, standoff 0, extent -0.885,-1.04 0.885,1.04

## TLA12UNA [mm] "Micro SMD, 12-Leads, Body 2.3x1.97mm, Pitch 0.5mm, NSC Recommended"
height 0.68
pads (12):
  round 0.265 smd paste-0.132 mask+0.05: A1(-0.5,0.75) A2(0,0.75) A3(0.5,0.75) B1(-0.5,0.25) B2(0,0.25) B3(0.5,0.25) C1(-0.5,-0.25) C2(0,-0.25) C3(0.5,-0.25) D1(-0.5,-0.75) D2(0,-0.75) D3(0.5,-0.75)
Top Overlay:
  circle w0.1: c-1.09,1.255 r0.05
Top Paste:
  circle w0.05: c-0.6,0.7 r0.025
  circle w0.05: c-0.45,0.85 r0.025
  circle w0.05: c-0.45,0.7 r0.025
  circle w0.05: c-0.6,0.85 r0.025
  circle w0.05: c-0.075,0.7 r0.025
  circle w0.05: c0.075,0.85 r0.025
  circle w0.05: c0.075,0.7 r0.025
  circle w0.05: c-0.075,0.85 r0.025
  circle w0.05: c0.45,0.7 r0.025
  circle w0.05: c0.6,0.85 r0.025
  circle w0.05: c0.6,0.7 r0.025
  circle w0.05: c0.45,0.85 r0.025
  circle w0.05: c-0.6,0.175 r0.025
  circle w0.05: c-0.45,0.325 r0.025
  circle w0.05: c-0.45,0.175 r0.025
  circle w0.05: c-0.6,0.325 r0.025
  circle w0.05: c-0.075,0.175 r0.025
  circle w0.05: c0.075,0.325 r0.025
  circle w0.05: c0.075,0.175 r0.025
  circle w0.05: c-0.075,0.325 r0.025
  circle w0.05: c0.45,0.175 r0.025
  circle w0.05: c0.6,0.325 r0.025
  circle w0.05: c0.6,0.175 r0.025
  circle w0.05: c0.45,0.325 r0.025
  circle w0.05: c-0.6,-0.325 r0.025
  circle w0.05: c-0.45,-0.175 r0.025
  circle w0.05: c-0.45,-0.325 r0.025
  circle w0.05: c-0.6,-0.175 r0.025
  circle w0.05: c-0.075,-0.325 r0.025
  circle w0.05: c0.075,-0.175 r0.025
  circle w0.05: c0.075,-0.325 r0.025
  circle w0.05: c-0.075,-0.175 r0.025
  circle w0.05: c0.45,-0.325 r0.025
  circle w0.05: c0.6,-0.175 r0.025
  circle w0.05: c0.6,-0.325 r0.025
  circle w0.05: c0.45,-0.175 r0.025
  circle w0.05: c-0.6,-0.85 r0.025
  circle w0.05: c-0.45,-0.7 r0.025
  circle w0.05: c-0.45,-0.85 r0.025
  circle w0.05: c-0.6,-0.7 r0.025
  circle w0.05: c-0.075,-0.85 r0.025
  circle w0.05: c0.075,-0.7 r0.025
  circle w0.05: c0.075,-0.85 r0.025
  circle w0.05: c-0.075,-0.7 r0.025
  circle w0.05: c0.45,-0.85 r0.025
  circle w0.05: c0.6,-0.7 r0.025
  circle w0.05: c0.6,-0.85 r0.025
  circle w0.05: c0.45,-0.7 r0.025
  region: -0.6,0.85 -0.6,0.7 -0.45,0.7 -0.45,0.85
  region: -0.6,0.7 -0.6,0.85 -0.65,0.85 -0.65,0.7
  rectangle: -0.6,0.85 -0.45,0.9
  region: -0.45,0.85 -0.45,0.7 -0.4,0.7 -0.4,0.85
  region: -0.45,0.7 -0.6,0.7 -0.6,0.65 -0.45,0.65
  region: -0.075,0.85 -0.075,0.7 0.075,0.7 0.075,0.85
  region: -0.075,0.7 -0.075,0.85 -0.125,0.85 -0.125,0.7
  rectangle: -0.075,0.85 0.075,0.9
  region: 0.075,0.85 0.075,0.7 0.125,0.7 0.125,0.85
  region: 0.075,0.7 -0.075,0.7 -0.075,0.65 0.075,0.65
  region: 0.45,0.85 0.45,0.7 0.6,0.7 0.6,0.85
  region: 0.45,0.7 0.45,0.85 0.4,0.85 0.4,0.7
  rectangle: 0.45,0.85 0.6,0.9
  region: 0.6,0.85 0.6,0.7 0.65,0.7 0.65,0.85
  region: 0.6,0.7 0.45,0.7 0.45,0.65 0.6,0.65
  region: -0.6,0.325 -0.6,0.175 -0.45,0.175 -0.45,0.325
  region: -0.6,0.175 -0.6,0.325 -0.65,0.325 -0.65,0.175
  rectangle: -0.6,0.325 -0.45,0.375
  region: -0.45,0.325 -0.45,0.175 -0.4,0.175 -0.4,0.325
  region: -0.45,0.175 -0.6,0.175 -0.6,0.125 -0.45,0.125
  region: -0.075,0.325 -0.075,0.175 0.075,0.175 0.075,0.325
  region: -0.075,0.175 -0.075,0.325 -0.125,0.325 -0.125,0.175
  rectangle: -0.075,0.325 0.075,0.375
  region: 0.075,0.325 0.075,0.175 0.125,0.175 0.125,0.325
  region: 0.075,0.175 -0.075,0.175 -0.075,0.125 0.075,0.125
  region: 0.45,0.325 0.45,0.175 0.6,0.175 0.6,0.325
  region: 0.45,0.175 0.45,0.325 0.4,0.325 0.4,0.175
  rectangle: 0.45,0.325 0.6,0.375
  region: 0.6,0.325 0.6,0.175 0.65,0.175 0.65,0.325
  region: 0.6,0.175 0.45,0.175 0.45,0.125 0.6,0.125
  region: -0.6,-0.175 -0.6,-0.325 -0.45,-0.325 -0.45,-0.175
  region: -0.6,-0.325 -0.6,-0.175 -0.65,-0.175 -0.65,-0.325
  rectangle: -0.6,-0.175 -0.45,-0.125
  region: -0.45,-0.175 -0.45,-0.325 -0.4,-0.325 -0.4,-0.175
  region: -0.45,-0.325 -0.6,-0.325 -0.6,-0.375 -0.45,-0.375
  region: -0.075,-0.175 -0.075,-0.325 0.075,-0.325 0.075,-0.175
  region: -0.075,-0.325 -0.075,-0.175 -0.125,-0.175 -0.125,-0.325
  rectangle: -0.075,-0.175 0.075,-0.125
  region: 0.075,-0.175 0.075,-0.325 0.125,-0.325 0.125,-0.175
  region: 0.075,-0.325 -0.075,-0.325 -0.075,-0.375 0.075,-0.375
  region: 0.45,-0.175 0.45,-0.325 0.6,-0.325 0.6,-0.175
  region: 0.45,-0.325 0.45,-0.175 0.4,-0.175 0.4,-0.325
  rectangle: 0.45,-0.175 0.6,-0.125
  region: 0.6,-0.175 0.6,-0.325 0.65,-0.325 0.65,-0.175
  region: 0.6,-0.325 0.45,-0.325 0.45,-0.375 0.6,-0.375
  region: -0.6,-0.7 -0.6,-0.85 -0.45,-0.85 -0.45,-0.7
  region: -0.6,-0.85 -0.6,-0.7 -0.65,-0.7 -0.65,-0.85
  rectangle: -0.6,-0.7 -0.45,-0.65
  region: -0.45,-0.7 -0.45,-0.85 -0.4,-0.85 -0.4,-0.7
  region: -0.45,-0.85 -0.6,-0.85 -0.6,-0.9 -0.45,-0.9
  region: -0.075,-0.7 -0.075,-0.85 0.075,-0.85 0.075,-0.7
  region: -0.075,-0.85 -0.075,-0.7 -0.125,-0.7 -0.125,-0.85
  rectangle: -0.075,-0.7 0.075,-0.65
  region: 0.075,-0.7 0.075,-0.85 0.125,-0.85 0.125,-0.7
  region: 0.075,-0.85 -0.075,-0.85 -0.075,-0.9 0.075,-0.9
  region: 0.45,-0.7 0.45,-0.85 0.6,-0.85 0.6,-0.7
  region: 0.45,-0.85 0.45,-0.7 0.4,-0.7 0.4,-0.85
  rectangle: 0.45,-0.7 0.6,-0.65
  region: 0.6,-0.7 0.6,-0.85 0.65,-0.85 0.65,-0.7
  region: 0.6,-0.85 0.45,-0.85 0.45,-0.9 0.6,-0.9
Mechanical 13:
  lines w0.1: -0.985,-1.15 -0.985,1.15 0.985,1.15 0.985,-1.15 -0.985,-1.15
Mechanical 15:
  lines w0.1: -0.5,0 0.5,0 ; 0,-0.5 0,0.5 ; -1.085,-1.25 -1.085,1.25 1.085,1.25 1.085,-1.25 -1.085,-1.25
3D body: height 0.68, standoff 0, extent -0.985,-1.15 0.985,1.15

## TLA18EHA [mm] "Micro SMD, 18-Leads, Body 2.4x2.1mm, Pitch 0.5mm, NSC Recommended"
height 0.68
pads (18):
  round 0.265 smd paste-0.132 mask+0.05: A1(-0.75,0.866) A3(-0.25,0.866) A5(0.25,0.866) A7(0.75,0.866) B2(-0.5,0.433) B4(0,0.433) B6(0.5,0.433) C1(-0.75,0) C3(-0.25,0) C5(0.25,0) C7(0.75,0) D2(-0.5,-0.433) D4(0,-0.433) D6(0.5,-0.433) E1(-0.75,-0.866) E3(-0.25,-0.866) E5(0.25,-0.866) E7(0.75,-0.866)
Top Overlay:
  circle w0.1: c-1.155,1.305 r0.05
Top Paste:
  drawing of 162 lines, arcs and shapes, not listed
Mechanical 13:
  lines w0.1: -1.05,-1.2 -1.05,1.2 1.05,1.2 1.05,-1.2 -1.05,-1.2
Mechanical 15:
  lines w0.1: -0.5,0 0.5,0 ; 0,-0.5 0,0.5 ; -1.15,-1.3 1.15,-1.3 1.15,1.3 -1.15,1.3 -1.15,-1.3
3D body: height 0.68, standoff 0, extent -1.049,-1.2 1.049,1.199

## TLA25AAA [mm] "Micro SMD, 25-Leads, Body 2.49x2.49mm, Pitch 0.5mm, NSC Recommended"
height 0.68
pads (25):
  round 0.265 smd paste-0.132 mask+0.05: A1(-1,1) A2(-0.5,1) A3(0,1) A4(0.5,1) A5(1,1) B1(-1,0.5) B2(-0.5,0.5) B3(0,0.5) B4(0.5,0.5) B5(1,0.5) C1(-1,0) C2(-0.5,0) C3(0,0) C4(0.5,0) C5(1,0) D1(-1,-0.5) D2(-0.5,-0.5) D3(0,-0.5) D4(0.5,-0.5) D5(1,-0.5) E1(-1,-1) E2(-0.5,-1) E3(0,-1) E4(0.5,-1) E5(1,-1)
Top Overlay:
  circle w0.1: c-1.35,1.35 r0.05
Top Paste:
  drawing of 225 lines, arcs and shapes, not listed
Mechanical 13:
  lines w0.1: -1.245,-1.245 -1.245,1.245 1.245,1.245 1.245,-1.245 -1.245,-1.245
Mechanical 15:
  lines w0.1: -0.5,0 0.5,0 ; 0,-0.5 0,0.5 ; -1.345,-1.345 -1.345,1.345 1.345,1.345 1.345,-1.345 -1.345,-1.345
3D body: height 0.68, standoff 0, extent -1.244,-1.244 1.244,1.244

## TLA25CCA [mm] "Micro SMD, 25-Leads, Body 2.54x2.54mm, Pitch 0.5mm, NSC Recommended"
height 0.68
pads (25):
  round 0.265 smd paste-0.132 mask+0.05: A1(-1,1) A2(-0.5,1) A3(0,1) A4(0.5,1) A5(1,1) B1(-1,0.5) B2(-0.5,0.5) B3(0,0.5) B4(0.5,0.5) B5(1,0.5) C1(-1,0) C2(-0.5,0) C3(0,0) C4(0.5,0) C5(1,0) D1(-1,-0.5) D2(-0.5,-0.5) D3(0,-0.5) D4(0.5,-0.5) D5(1,-0.5) E1(-1,-1) E2(-0.5,-1) E3(0,-1) E4(0.5,-1) E5(1,-1)
Top Overlay:
  circle w0.1: c-1.375,1.375 r0.05
Top Paste:
  drawing of 225 lines, arcs and shapes, not listed
Mechanical 13:
  lines w0.1: -1.27,-1.27 1.27,-1.27 1.27,1.27 -1.27,1.27 -1.27,-1.27
Mechanical 15:
  lines w0.1: -0.5,0 0.5,0 ; 0,-0.5 0,0.5 ; -1.37,-1.37 1.37,-1.37 1.37,1.37 -1.37,1.37 -1.37,-1.37
3D body: height 0.68, standoff 0, extent -1.275,-1.275 1.275,1.275

## TLA25EMA [mm] "Micro SMD, 25-Leads, Body 2.77x2.59mm, Pitch 0.5mm, NSC Recommended"
height 0.68
pads (25):
  round 0.265 smd paste-0.132 mask+0.05: A1(-1,1) A2(-0.5,1) A3(0,1) A4(0.5,1) A5(1,1) B1(-1,0.5) B2(-0.5,0.5) B3(0,0.5) B4(0.5,0.5) B5(1,0.5) C1(-1,0) C2(-0.5,0) C3(0,0) C4(0.5,0) C5(1,0) D1(-1,-0.5) D2(-0.5,-0.5) D3(0,-0.5) D4(0.5,-0.5) D5(1,-0.5) E1(-1,-1) E2(-0.5,-1) E3(0,-1) E4(0.5,-1) E5(1,-1)
Top Overlay:
  circle w0.1: c-1.4,1.49 r0.05
Top Paste:
  drawing of 225 lines, arcs and shapes, not listed
Mechanical 13:
  lines w0.1: -1.295,-1.385 -1.295,1.385 1.295,1.385 1.295,-1.385 -1.295,-1.385
Mechanical 15:
  lines w0.1: -0.5,0 0.5,0 ; 0,-0.5 0,0.5 ; -1.395,-1.485 -1.395,1.485 1.395,1.485 1.395,-1.485 -1.395,-1.485
3D body: height 0.68, standoff 0, extent -1.3,-1.385 1.3,1.385